# Altium schematic symbol library 隔离ACDC电源模块.SchLib: 2 symbols
Pins are listed as number, name and electrical type; pins without a type are passive.

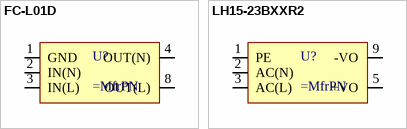
[diagram p0: symbols FC-L01D to LH15-23BXXR2]

## FC-L01D
designator U?
footprint FC-L01D (Footprint not found)
pins: 1 GND, 2 IN(N), 3 IN(L), 4 OUT(N), 8 OUT(L)

## LH15-23BXXR2
designator U?
footprint LH15-23BXXR2 (Footprint not found)
pins: 1 PE, 2 AC(N), 3 AC(L), 5 +VO, 9 -VO